# Altium footprint library TSOT-5 inverted.PcbLib: 1 footprints
Each footprint in its own frame and in the unit in brackets; x right, y up, seen from the top. Pads: shape width x height; smd on the part's side, far side on the other; paste and mask are expansions set on the pad; w line width, h text height; cw(c..) or ccw(c..) is an arc to the next point about the centre after c.
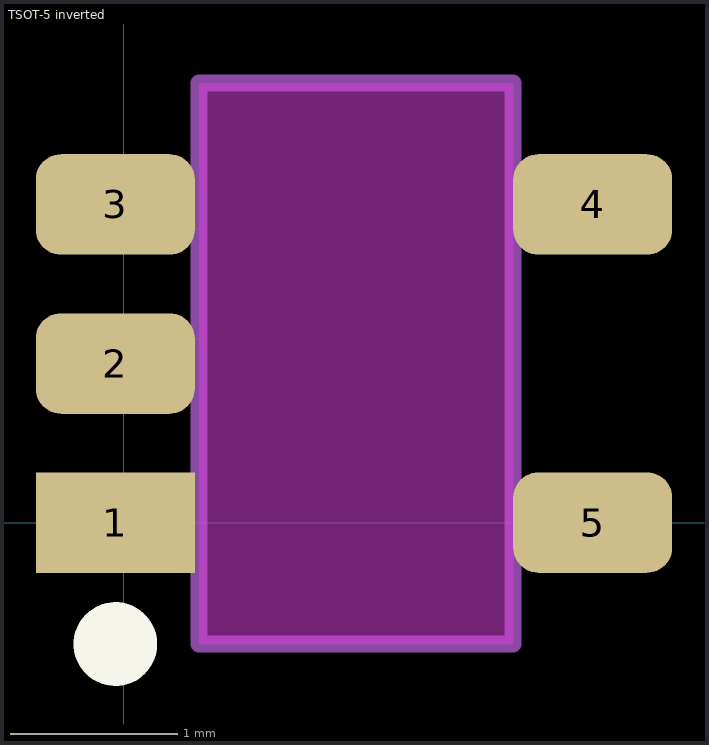
[diagram p0: the footprint, top view; thin cyan lines are the x and y axes]

## TSOT-5 inverted [mm]
pads (5):
  rect 0.95x0.6 smd: 1(-0.05,0)
  rrect50% 0.95x0.6 smd: 2(-0.05,0.95) 3(-0.05,1.9) 4(2.8,1.9) 5(2.8,0)
Top Overlay:
  circle w0.25: c-0.05,-0.725 r0.125
Keep-Out Layer:
  board cut-out: 0.45,2.625 2.325,2.625 2.325,-0.725 0.45,-0.725
Mechanical 1:
  lines w0.1: 0.45,-0.725 2.325,-0.725 2.325,2.625 0.45,2.625 0.45,-0.725
3D body "TSOP-5.STEP": height 0.25, standoff -0.85, extent -0.125,-0.6 2.875,2.5